# Altium schematic symbol library 2-1445057-7.SchLib: 1 symbol
Pins are listed as number, name and electrical type; pins without a type are passive.

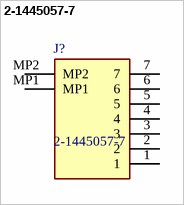
[diagram p0: symbol 2-1445057-7]

## 2-1445057-7
designator J?
Configuration Features: PCB Mount Orientation Right Angle | Number of Rows 1 | Number of Positions 7 | Number of Power Positions 7 | Contact Features: PCB Contact Termination Area Plating Material Thickness 2.54 MICM | PCB Contact Termination Area Plating Material Tin | Contact Current Rating (Max) 5 AMP | Multiple Contact Types Without | Contact Retention Within Housing Without | Contact Layout Inline | PCB Contact Termination Area Plating Material Thickness 100 MICIN | Contact Mating Area Plating Material; Manufacturer_Name: TE Connectivity; Geometry.Height: 5.67mm; Mouser Part Number: 571-2-1445057-7; Mouser Price/Stock: https://www.mouser.co.uk/ProductDetail/TE-Connectivity-AMP/2-1445057-7?qs=Eu63EZxBwKLXHKRdKJ3J%252Bw%3D%3D; Manufacturer_Part_Number: 2-1445057-7; Datasheet Link: https://www.te.com/commerce/DocumentDelivery/DDEController?Action=srchrtrv&DocNm=micro-mate-n-lok-connector-qrg&DocType=Data%20Sheet&DocLang=English&PartCntxt=2-1445057-7&DocFormat=pdf
footprint 214450577
pins: 1, 2, 3, 4, 5, 6, 7, MP1, MP2